# Altium footprint library PcbLib2.PcbLib: 4 footprints
Each footprint in its own frame and in the unit in brackets; x right, y up, seen from the top. Pads: shape width x height; smd on the part's side, far side on the other; paste and mask are expansions set on the pad; w line width, h text height; cw(c..) or ccw(c..) is an arc to the next point about the centre after c.
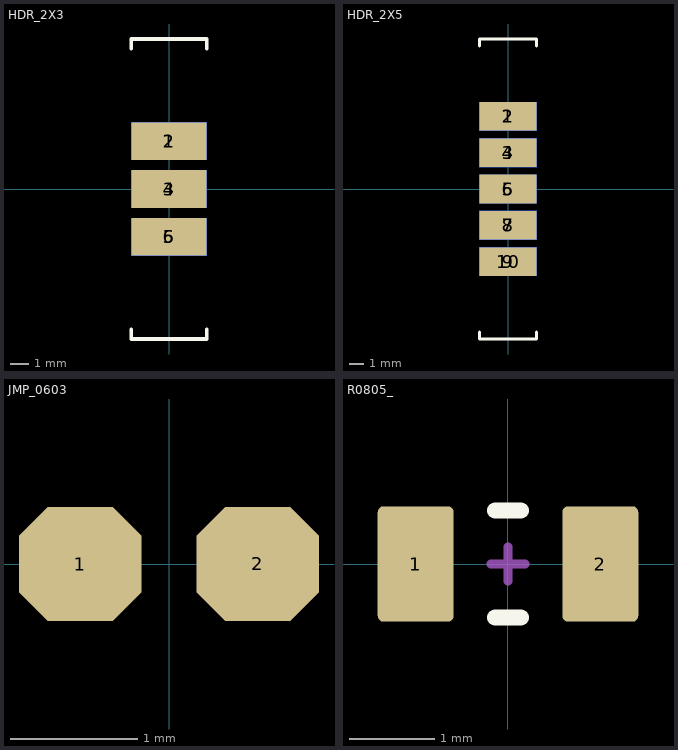
[diagram p0: the footprints below, top view; thin cyan lines are the x and y axes]

## HDR_2X3 [mm] "Connector; Header; 5x2 Position"
height 1.45
pads (6):
  rect 4x2 smd mask+0.05: 1(0,2.54) 3(0,0) 5(0,-2.54)
  rect 4x2 smd far side mask+0.05: 2(0,2.54) 4(0,0) 6(0,-2.54)
Top Overlay:
  lines w0.2: -2,-7.46 -2,-7.96 2,-7.96 2,-7.46 ; -2,7.46 -2,7.96 2,7.96 2,7.46
Top Component Center:
  lines w0.1: -0.2,-2.54 0.2,-2.54 ; 0,-2.74 0,-2.34

## HDR_2X5 [mm] "Connector; Header; 5x2 Position"
height 1.45
pads (10):
  rect 4x2 smd mask+0.05: 1(0,5.08) 3(0,2.54) 5(0,0) 7(0,-2.54) 9(0,-5.08)
  rect 4x2 smd far side mask+0.05: 2(0,5.08) 4(0,2.54) 6(0,0) 8(0,-2.54) 10(0,-5.08)
Top Overlay:
  lines w0.2: -2,-10 -2,-10.5 2,-10.5 2,-10 ; -2,10 -2,10.5 2,10.5 2,10
Top Component Center:
  lines w0.1: -0.2,0 0.2,0 ; 0,-0.2 0,0.2

## JMP_0603 [mm] "Chip Resistor; Body 1.6 x 0.8 mm (LxW typ)"
height 0.55
pads (2):
  oct 0.965x0.9 smd mask+0.05: 1(-0.7,0) 2(0.7,0)

## R0805_ [mm] "Chip Resistor; Body 1.6 x 0.8 mm (LxW typ)"
height 0.55
pads (2):
  rrect15% 0.889x1.35 smd: 1(-1.079,0) 2(1.08,0)
Top Overlay:
  lines w0.191: -0.15,-0.625 0.15,-0.625 ; -0.15,0.625 0.15,0.625
Top Component Center:
  lines w0.1: -0.2,0 0.2,0 ; 0,-0.2 0,0.2
3D body "RESC-0805.stp": height 0.6, standoff 0, extent -1.05,-0.675 1.05,0.675